# EAGLE library part 6620XX11122_66201011122 (library 66200211022_Eagle_WR-MPC3_rev19b)
WR-MPC3 Single Row Male Vertical Header KIND PROPERTIES Pitch 3 mm Gender Male MATERIAL PROPERTIES Insulator Material LCP Insulator Flammability Rating UL94 V-0 Insulator Color Black Contact Material Copper Alloy Contact Plating Tin Contact Type Stamped GENERAL INFORMATION Operating Temperature -40 up to +105 °C Compliance:RoHS Working Voltage 250 V (AC) Withstanding Voltage 1500 V (AC) Contact Resistance 10 mΩ RISO 1000 MΩ CERTIFICATION UL Approval E323964 WIRE PROPERTIES Packaging Tube <https://katalog.we-online.de/media/images/v2/o33166v209%20Family_WR-MPC3_6620xx11122.jpg> Details see: https://katalog.we-online.de/en/em/MPC3_3_00_MALE_SINGLE_ROW_VERTICAL_HEADER_6620XX11122 Created by Yingchun,Shan 2019-11-15 2019 (C) Würth Elektronik
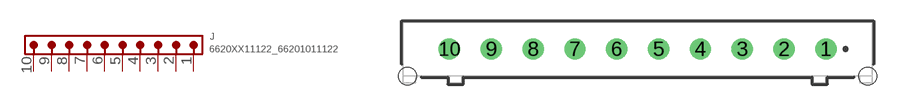
[diagram p95: symbol with the pads of 66201011122; footprint 66201011122]

Designator prefix J

## 6620XX11122_66201011122 (CONTACT-RESISTANCE: 10Ohm; DATASHEET-URL: https://katalog.we-online.com/em/datasheet/66201011122.pdf; GENDER: Male; IR1: 5A; L: 33.65mm; MATE-WITH: WR-MPC3 3.00 mm Female Single Row Receptacle; MOUNT: THT; PACKAGING: Tube; PART-NUMBER: 66201011122; PCB-CABLE-PANEL: PCB; PINS: 10; PITCH: 3mm; ROWS: Single; TOL-R: max.; TYPE: Vertical; WORKING-VOLTAGE: 250V(AC))  [66201011122]
1  1  pas
2  2  pas
3  3  pas
4  4  pas
5  5  pas
6  6  pas
7  7  pas
8  8  pas
9  9  pas
10  10  pas

## Footprint 66201011122 (pad centres in mm)
WR-MPC3 3.00mm Male Single Row Vertical Header, 10 Pins
drill 1.02: 1 13.5,0; 2 10.5,0; 3 7.5,0; 4 4.5,0; 5 1.5,0; 6 -1.5,0; 7 -4.5,0; 8 -7.5,0; 9 -10.5,0; 10 -13.5,0
hole 1.27 at 16.5,-1.96
hole 1.27 at -16.5,-1.96